# Altium schematic symbol library kmilo17pet-TI_LDO_0_350.SchLib: 1649 symbols (part 62 of 66)
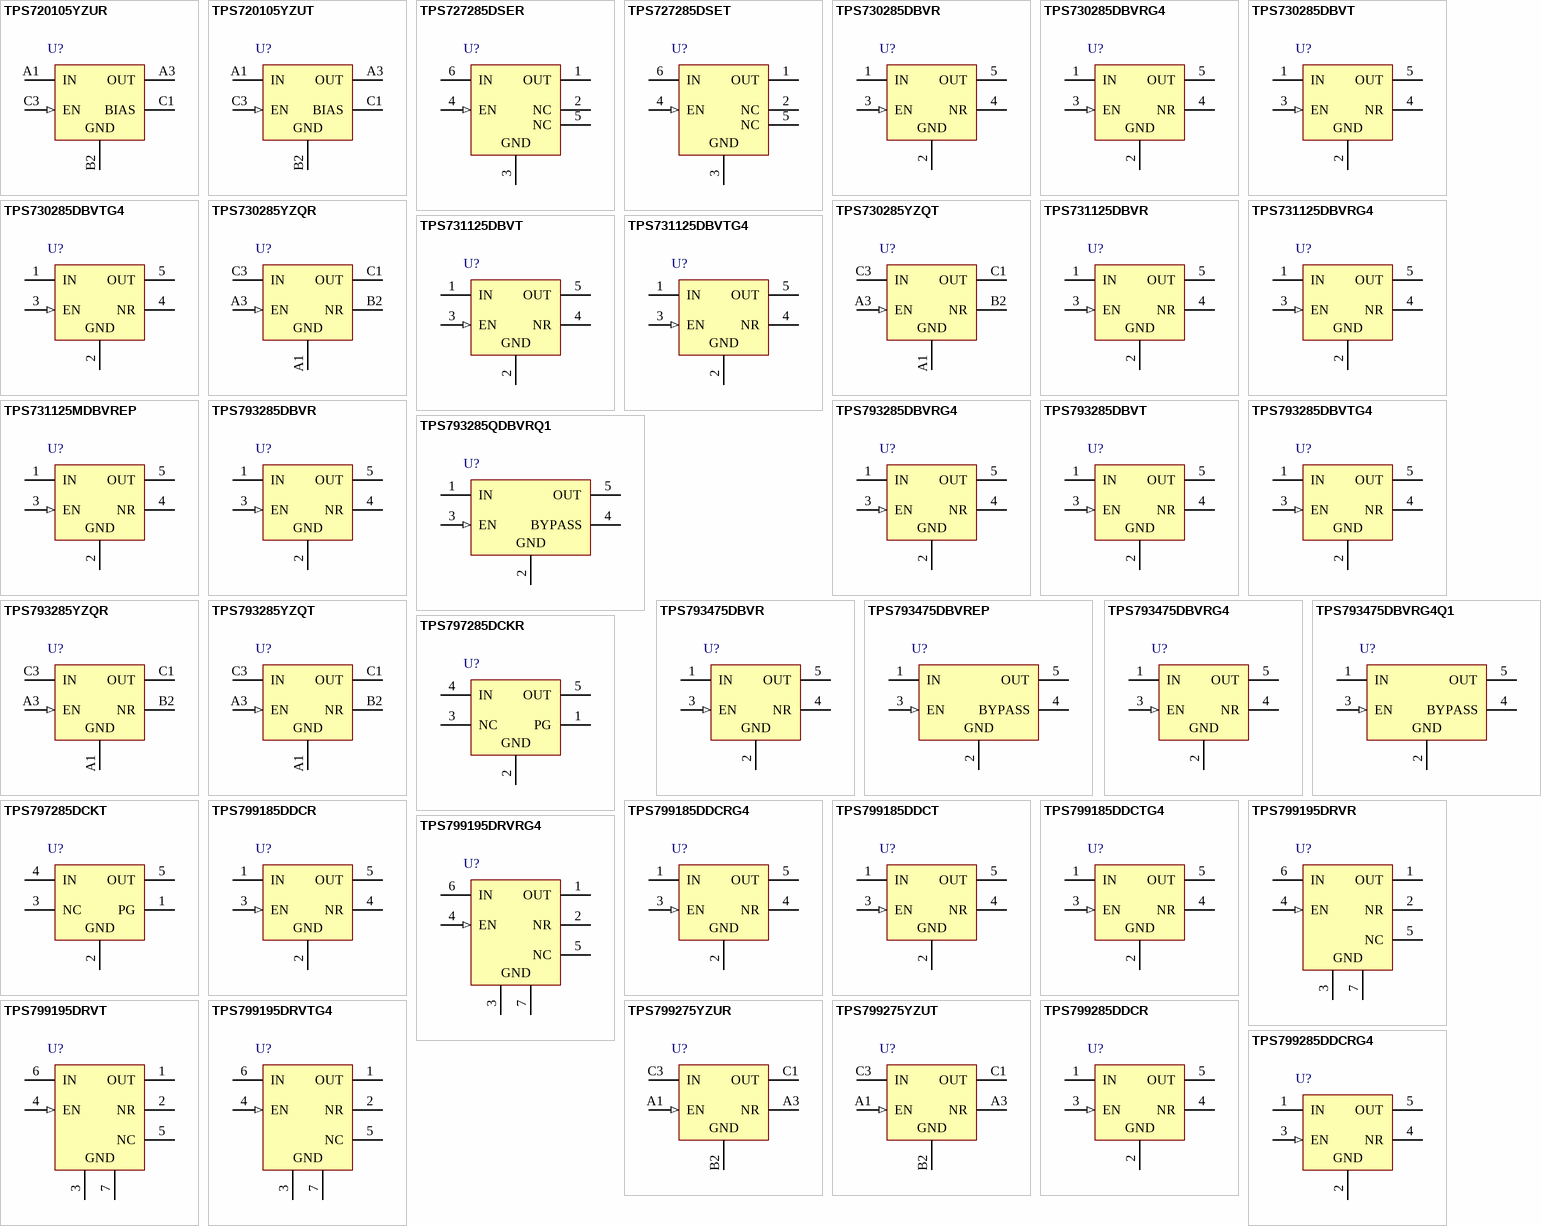
[diagram p103: symbols TPS720105YZUR to TPS799285DDCRG4]

## TPS799275YZUT
designator U?
Single Output High PSRR LDO, 200 mA, Fixed 2.75 V Output, 2.7 to 6.5 V Input, with Low IQ, 5-pin DSBGA (YZU), -40 to 85 degC, Green (RoHS & no Sb/Br); Manufacturer: Texas Instruments; PartNumber: TPS799275YZUT; Accuracy(%): 2; Fixed Output Options(V): 2.8; Iout(Max)(A): 0.2; Iq(Typ)(mA): 0.04; Rating: Catalog; SubFamily: Single Channel LDO; Vdo(Typ)(mV): 100; Vin(Max)(V): 6.5; Vin(Min)(V): 2.7; DatasheetVersion: SBVS056J; PackageVersion: 4205678/D; PackageReference: YZU5; PackageDescription: 5-Pin Silicon Grid Array, Body 1.337 x 0.971 mm, Pitch 0.25 mm; Supplier 1: Digi-Key; Supplier Part Number 1: 296-32582-2-ND; Supplier 2: Digi-Key; Supplier Part Number 2: 296-32582-1-ND; Supplier 3: Digi-Key; Supplier Part Number 3: 296-32582-6-ND; Supplier 4: Newark; Supplier Part Number 4: 27M1115; Supplier 5: Mouser; Supplier Part Number 5: 595-TPS799275YZUT; Eco-Plan: Green (RoHS & no Sb/Br); Vout Adj(Max)(V): 2.7; Vout Adj(Min)(V): 2.7; Mounting Technology: Surface Mount; ComponentLink1Description: Manufacturer URL; ComponentLink1URL: http://www.ti.com/; ComponentLink2Description: Datasheet; ComponentLink2URL: http://www.ti.com/general/docs/lit/getliterature.tsp?genericPartNumber=TPS799275&fileType=pdf; ComponentLink3Description: Package Specification; ComponentLink3URL: http://www.ti.com/litv/pdf/mpds018i
footprint TI-YZU5-1337x971DE (BGA, 5-Balls, Body 1.337x0.971mm, Pitch 0.25mm)
pins: A1 EN (in) "Driving the enable pin (EN) high turns on the regulator.Driving this pin low puts the regulator into shutdown mode.EN can be connected to IN if not used.", A3 NR "Fixed voltage versions only; connecting an external capacitor to this pin bypasses noise generated by the internal bandgap. This capacitor allows output noise to be reduced to very low levels.", B2 GND (power) "Ground. The pad must be tied to GND", C1 OUT (power) "Outout of the regulator.A small capacitor (total typical capacitance >= 2.0uF ceramic) is needed from this pin to ground to assure stability.", C3 IN (power) "Input supply."

## TPS799285DDCR
designator U?
Single Output High PSRR LDO, 200 mA, Fixed 2.85 V Output, 2.7 to 6.5 V Input, with Low IQ, 5-pin SOT (DDC), -40 to 85 degC, Green (RoHS & no Sb/Br); Manufacturer: Texas Instruments; PartNumber: TPS799285DDCR; Accuracy(%): 2; Fixed Output Options(V): 2.85; Iout(Max)(A): 0.2; Iq(Typ)(mA): 0.04; Rating: Catalog; SubFamily: Single Channel LDO; Vdo(Typ)(mV): 100; Vin(Max)(V): 6.5; Vin(Min)(V): 2.7; DatasheetVersion: SBVS056J; PackageVersion: 4204403-2/E; PackageReference: DDC5; PackageDescription: 5-Pin Plastic Small Outline, Body 2.9 x 1.6 mm, 0.95 mm Pitch; Supplier 1: Digi-Key; Supplier Part Number 1: 296-17780-2-ND; Supplier 2: Digi-Key; Supplier Part Number 2: 296-17780-1-ND; Supplier 3: Digi-Key; Supplier Part Number 3: 296-17780-6-ND; Supplier 4: Mouser; Supplier Part Number 4: 595-TPS799285DDCR; Eco-Plan: Green (RoHS & no Sb/Br); Vout Adj(Max)(V): 2.85; Vout Adj(Min)(V): 2.85; Mounting Technology: Surface Mount; Code_JEDEC: MO-193; ComponentLink1Description: Manufacturer URL; ComponentLink1URL: http://www.ti.com/; ComponentLink2Description: Datasheet; ComponentLink2URL: http://www.ti.com/general/docs/lit/getliterature.tsp?genericPartNumber=TPS799285&fileType=pdf; ComponentLink3Description: Package Specification; ComponentLink3URL: http://www.ti.com/litv/pdf/mpds123d
footprint TI-DDC5_N (SOT23, 5-Leads, Body 2.9x1.6mm, Pitch 0.95mm, IPC Medium Density)
footprint TI-DDC5_L (SOT23, 5-Leads, Body 2.9x1.6mm, Pitch 0.95mm, IPC High Density)
footprint TI-DDC5_M (SOT23, 5-Leads, Body 2.9x1.6mm, Pitch 0.95mm, IPC Low Density)
pins: 1 IN (power) "Input supply.", 2 GND (power) "Ground.", 3 EN (in) "Driving the enable pin (EN) high turns on the regulator .Driving this pin low puts the regulator into shutdown mode.EN can be connected to IN if not used.", 4 NR "Fixed voltage versions only; connecting an external capacitor to this pin bypasses noise generated by the internal bandgap. This capacitor allows output noise to be reduced to very low levels.", 5 OUT (power) "Output for the regulator. A small capacitor (total typical capacitance >= 2.0uF ceramic) is needed from this pin to ground to assure stability."

## TPS799285DDCRG4
designator U?
Single Output High PSRR LDO, 200 mA, Fixed 2.85 V Output, 2.7 to 6.5 V Input, with Low IQ, 5-pin SOT (DDC), -40 to 85 degC, Green (RoHS & no Sb/Br); Manufacturer: Texas Instruments; PartNumber: TPS799285DDCRG4; Accuracy(%): 2; Fixed Output Options(V): 2.85; Iout(Max)(A): 0.2; Iq(Typ)(mA): 0.04; Rating: Catalog; SubFamily: Single Channel LDO; Vdo(Typ)(mV): 100; Vin(Max)(V): 6.5; Vin(Min)(V): 2.7; DatasheetVersion: SBVS056J; PackageVersion: 4204403-2/E; PackageReference: DDC5; PackageDescription: 5-Pin Plastic Small Outline, Body 2.9 x 1.6 mm, 0.95 mm Pitch; Supplier 1: Digi-Key; Supplier Part Number 1: TPS799285DDCRG4-ND; Supplier 2: Mouser; Supplier Part Number 2: 595-TPS799285DDCRG4; Eco-Plan: Green (RoHS & no Sb/Br); Vout Adj(Max)(V): 2.85; Vout Adj(Min)(V): 2.85; Mounting Technology: Surface Mount; Code_JEDEC: MO-193; ComponentLink1Description: Manufacturer URL; ComponentLink1URL: http://www.ti.com/; ComponentLink2Description: Datasheet; ComponentLink2URL: http://www.ti.com/general/docs/lit/getliterature.tsp?genericPartNumber=TPS799285&fileType=pdf; ComponentLink3Description: Package Specification; ComponentLink3URL: http://www.ti.com/litv/pdf/mpds123d
footprint TI-DDC5_N (SOT23, 5-Leads, Body 2.9x1.6mm, Pitch 0.95mm, IPC Medium Density)
footprint TI-DDC5_L (SOT23, 5-Leads, Body 2.9x1.6mm, Pitch 0.95mm, IPC High Density)
footprint TI-DDC5_M (SOT23, 5-Leads, Body 2.9x1.6mm, Pitch 0.95mm, IPC Low Density)
pins: 1 IN (power) "Input supply.", 2 GND (power) "Ground.", 3 EN (in) "Driving the enable pin (EN) high turns on the regulator .Driving this pin low puts the regulator into shutdown mode.EN can be connected to IN if not used.", 4 NR "Fixed voltage versions only; connecting an external capacitor to this pin bypasses noise generated by the internal bandgap. This capacitor allows output noise to be reduced to very low levels.", 5 OUT (power) "Output for the regulator. A small capacitor (total typical capacitance >= 2.0uF ceramic) is needed from this pin to ground to assure stability."

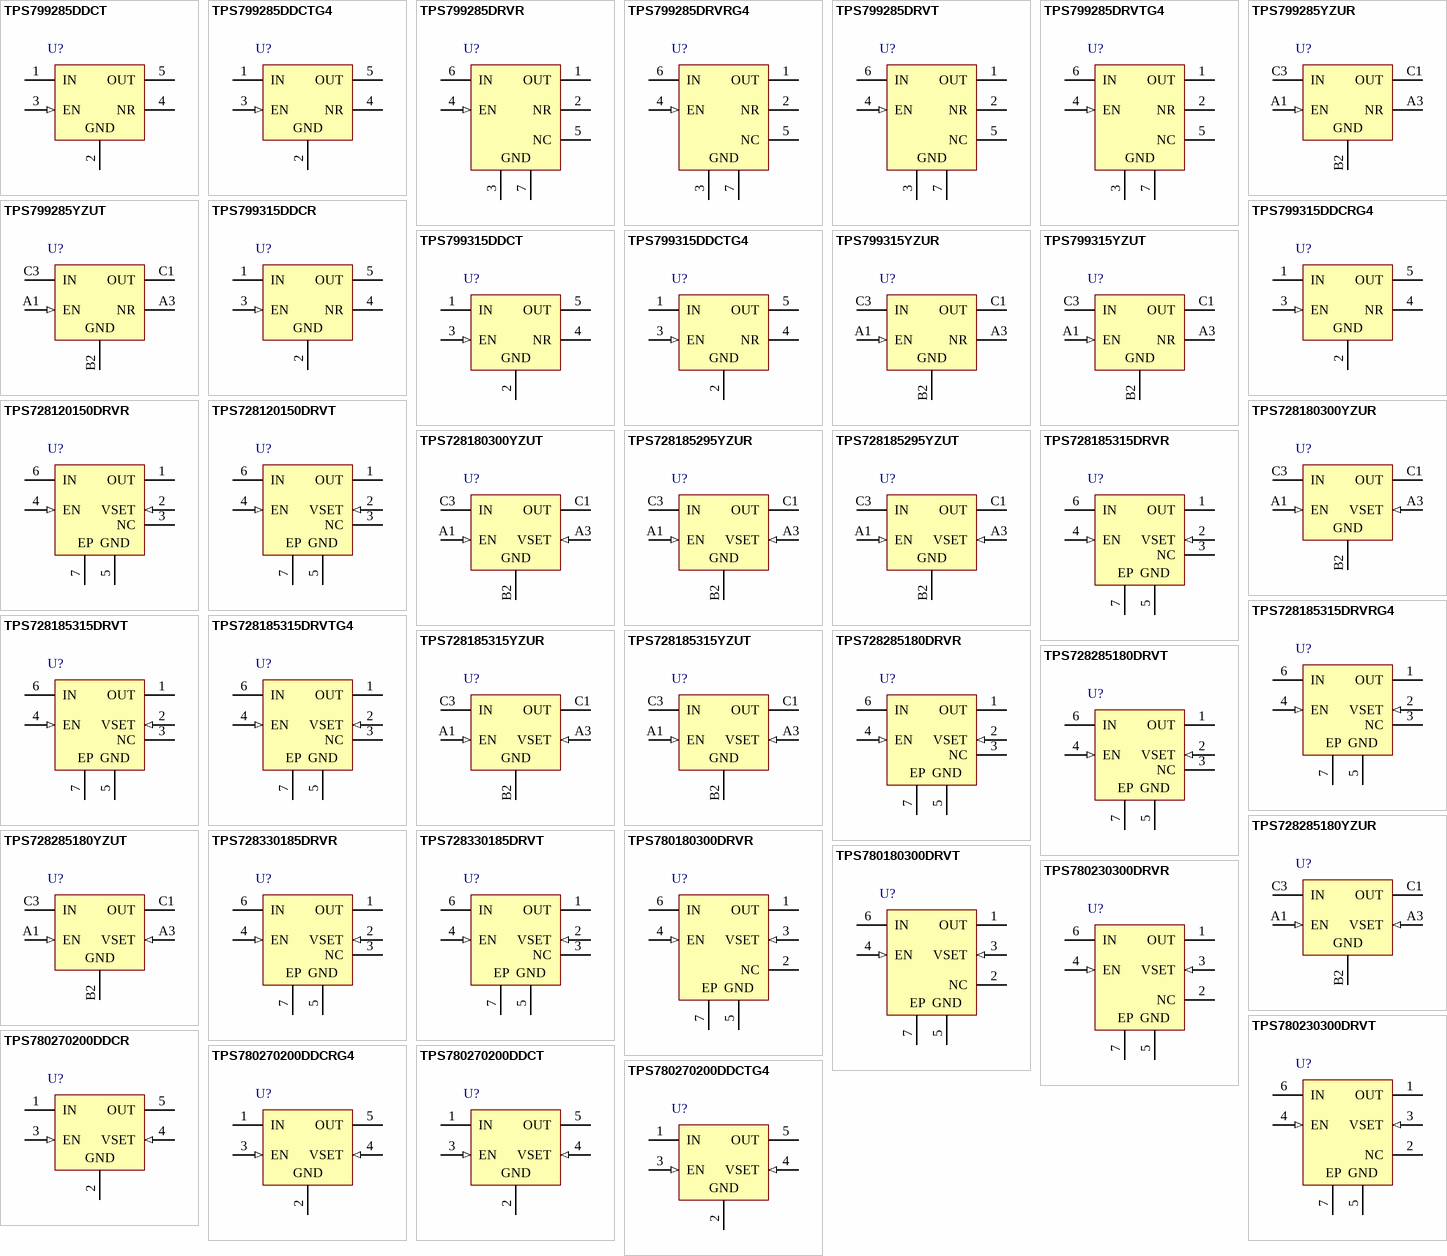
[diagram p40: symbols TPS799285DDCT to TPS780270200DDCTG4]

## TPS799285DDCT
designator U?
Single Output High PSRR LDO, 200 mA, Fixed 2.85 V Output, 2.7 to 6.5 V Input, with Low IQ, 5-pin SOT (DDC), -40 to 85 degC, Green (RoHS & no Sb/Br); Manufacturer: Texas Instruments; PartNumber: TPS799285DDCT; Accuracy(%): 2; Fixed Output Options(V): 2.85; Iout(Max)(A): 0.2; Iq(Typ)(mA): 0.04; Rating: Catalog; SubFamily: Single Channel LDO; Vdo(Typ)(mV): 100; Vin(Max)(V): 6.5; Vin(Min)(V): 2.7; DatasheetVersion: SBVS056J; PackageVersion: 4204403-2/E; PackageReference: DDC5; PackageDescription: 5-Pin Plastic Small Outline, Body 2.9 x 1.6 mm, 0.95 mm Pitch; Supplier 1: Digi-Key; Supplier Part Number 1: 296-32583-2-ND; Supplier 2: Digi-Key; Supplier Part Number 2: 296-32583-1-ND; Supplier 3: Digi-Key; Supplier Part Number 3: 296-32583-6-ND; Supplier 4: Mouser; Supplier Part Number 4: 595-TPS799285DDCT; Eco-Plan: Green (RoHS & no Sb/Br); Vout Adj(Max)(V): 2.85; Vout Adj(Min)(V): 2.85; Mounting Technology: Surface Mount; Code_JEDEC: MO-193; ComponentLink1Description: Manufacturer URL; ComponentLink1URL: http://www.ti.com/; ComponentLink2Description: Datasheet; ComponentLink2URL: http://www.ti.com/general/docs/lit/getliterature.tsp?genericPartNumber=TPS799285&fileType=pdf; ComponentLink3Description: Package Specification; ComponentLink3URL: http://www.ti.com/litv/pdf/mpds123d
footprint TI-DDC5_N (SOT23, 5-Leads, Body 2.9x1.6mm, Pitch 0.95mm, IPC Medium Density)
footprint TI-DDC5_L (SOT23, 5-Leads, Body 2.9x1.6mm, Pitch 0.95mm, IPC High Density)
footprint TI-DDC5_M (SOT23, 5-Leads, Body 2.9x1.6mm, Pitch 0.95mm, IPC Low Density)
pins: 1 IN (power) "Input supply.", 2 GND (power) "Ground.", 3 EN (in) "Driving the enable pin (EN) high turns on the regulator .Driving this pin low puts the regulator into shutdown mode.EN can be connected to IN if not used.", 4 NR "Fixed voltage versions only; connecting an external capacitor to this pin bypasses noise generated by the internal bandgap. This capacitor allows output noise to be reduced to very low levels.", 5 OUT (power) "Output for the regulator. A small capacitor (total typical capacitance >= 2.0uF ceramic) is needed from this pin to ground to assure stability."

## TPS799285DDCTG4
designator U?
Single Output High PSRR LDO, 200 mA, Fixed 2.85 V Output, 2.7 to 6.5 V Input, with Low IQ, 5-pin SOT (DDC), -40 to 85 degC, Green (RoHS & no Sb/Br); Manufacturer: Texas Instruments; PartNumber: TPS799285DDCTG4; Accuracy(%): 2; Fixed Output Options(V): 2.85; Iout(Max)(A): 0.2; Iq(Typ)(mA): 0.04; Rating: Catalog; SubFamily: Single Channel LDO; Vdo(Typ)(mV): 100; Vin(Max)(V): 6.5; Vin(Min)(V): 2.7; DatasheetVersion: SBVS056J; PackageVersion: 4204403-2/E; PackageReference: DDC5; PackageDescription: 5-Pin Plastic Small Outline, Body 2.9 x 1.6 mm, 0.95 mm Pitch; Supplier 1: Digi-Key; Supplier Part Number 1: TPS799285DDCTG4-ND; Supplier 2: Mouser; Supplier Part Number 2: 595-TPS799285DDCTG4; Eco-Plan: Green (RoHS & no Sb/Br); Vout Adj(Max)(V): 2.85; Vout Adj(Min)(V): 2.85; Mounting Technology: Surface Mount; Code_JEDEC: MO-193; ComponentLink1Description: Manufacturer URL; ComponentLink1URL: http://www.ti.com/; ComponentLink2Description: Datasheet; ComponentLink2URL: http://www.ti.com/general/docs/lit/getliterature.tsp?genericPartNumber=TPS799285&fileType=pdf; ComponentLink3Description: Package Specification; ComponentLink3URL: http://www.ti.com/litv/pdf/mpds123d
footprint TI-DDC5_N (SOT23, 5-Leads, Body 2.9x1.6mm, Pitch 0.95mm, IPC Medium Density)
footprint TI-DDC5_L (SOT23, 5-Leads, Body 2.9x1.6mm, Pitch 0.95mm, IPC High Density)
footprint TI-DDC5_M (SOT23, 5-Leads, Body 2.9x1.6mm, Pitch 0.95mm, IPC Low Density)
pins: 1 IN (power) "Input supply.", 2 GND (power) "Ground.", 3 EN (in) "Driving the enable pin (EN) high turns on the regulator .Driving this pin low puts the regulator into shutdown mode.EN can be connected to IN if not used.", 4 NR "Fixed voltage versions only; connecting an external capacitor to this pin bypasses noise generated by the internal bandgap. This capacitor allows output noise to be reduced to very low levels.", 5 OUT (power) "Output for the regulator. A small capacitor (total typical capacitance >= 2.0uF ceramic) is needed from this pin to ground to assure stability."

## TPS799285DRVR
designator U?
Single Output High PSRR LDO, 200 mA, Fixed 2.85 V Output, 2.7 to 6.5 V Input, with Low IQ, 6-pin SON (DRV), -40 to 85 degC, Green (RoHS & no Sb/Br); Manufacturer: Texas Instruments; PartNumber: TPS799285DRVR; Accuracy(%): 2; Fixed Output Options(V): 2.85; Iout(Max)(A): 0.2; Iq(Typ)(mA): 0.04; Rating: Catalog; SubFamily: Single Channel LDO; Vdo(Typ)(mV): 100; Vin(Max)(V): 6.5; Vin(Min)(V): 2.7; DatasheetVersion: SBVS056J; PackageVersion: 4206925/E; PackageReference: DRV6-1600X1000TP; PackageDescription: 6-Pin Plastic Small Outline No-Lead, Body 2 x 2 mm, Pitch 0.65 mm; Supplier 1: Digi-Key; Supplier Part Number 1: 296-19747-2-ND; Supplier 2: Digi-Key; Supplier Part Number 2: 296-19747-1-ND; Supplier 3: Digi-Key; Supplier Part Number 3: 296-19747-6-ND; Supplier 4: Mouser; Supplier Part Number 4: 595-TPS799285DRVR; Eco-Plan: Green (RoHS & no Sb/Br); Vout Adj(Max)(V): 2.85; Vout Adj(Min)(V): 2.85; Mounting Technology: Surface Mount; ComponentLink1Description: Manufacturer URL; ComponentLink1URL: http://www.ti.com/; ComponentLink2Description: Datasheet; ComponentLink2URL: http://www.ti.com/general/docs/lit/getliterature.tsp?genericPartNumber=TPS799285&fileType=pdf; ComponentLink3Description: Package Specification; ComponentLink3URL: http://www.ti.com/litv/pdf/mpds216d
footprint TI-DRV6-1600X1000TP_V (SON, 6-Leads, Body 2x2mm, Pitch 0.65mm, Thermal Pad 1X1.6mm)
pins: 1 OUT (power) "Output of the regulator. A small capacitor (total typical capacitance >= 2.0uF ceramic) is needed from this pin to ground to assure stability.", 2 NR "Fixed voltage versions only; connecting an external capacitor to this pin bypasses noise generated by the internal bandgap. This allows output noise to be reduced to very low levels.", 3 GND (power) "Ground", 4 EN (in) "Driving the enable pin (EN) high turns on the regulator. Driving this pin low puts the regulator into shutdown mode. EN can be connected to IN if not used.", 5 NC "Not internally connected. This pin must either be left open, or tied to GND.", 6 IN (power) "Input supply.", 7 GND (power) "The pad must be tied to GND."

## TPS799285DRVRG4
designator U?
Single Output High PSRR LDO, 200 mA, Fixed 2.85 V Output, 2.7 to 6.5 V Input, with Low IQ, 6-pin SON (DRV), -40 to 85 degC, Green (RoHS & no Sb/Br); Manufacturer: Texas Instruments; PartNumber: TPS799285DRVRG4; Accuracy(%): 2; Fixed Output Options(V): 2.85; Iout(Max)(A): 0.2; Iq(Typ)(mA): 0.04; Rating: Catalog; SubFamily: Single Channel LDO; Vdo(Typ)(mV): 100; Vin(Max)(V): 6.5; Vin(Min)(V): 2.7; DatasheetVersion: SBVS056J; PackageVersion: 4206925/E; PackageReference: DRV6-1600X1000TP; PackageDescription: 6-Pin Plastic Small Outline No-Lead, Body 2 x 2 mm, Pitch 0.65 mm; Supplier 1: Digi-Key; Supplier Part Number 1: TPS799285DRVRG4-ND; Supplier 2: Mouser; Supplier Part Number 2: 595-TPS799285DRVRG4; Eco-Plan: Green (RoHS & no Sb/Br); Vout Adj(Max)(V): 2.85; Vout Adj(Min)(V): 2.85; Mounting Technology: Surface Mount; ComponentLink1Description: Manufacturer URL; ComponentLink1URL: http://www.ti.com/; ComponentLink2Description: Datasheet; ComponentLink2URL: http://www.ti.com/general/docs/lit/getliterature.tsp?genericPartNumber=TPS799285&fileType=pdf; ComponentLink3Description: Package Specification; ComponentLink3URL: http://www.ti.com/litv/pdf/mpds216d
footprint TI-DRV6-1600X1000TP_V (SON, 6-Leads, Body 2x2mm, Pitch 0.65mm, Thermal Pad 1X1.6mm)
pins: 1 OUT (power) "Output of the regulator. A small capacitor (total typical capacitance >= 2.0uF ceramic) is needed from this pin to ground to assure stability.", 2 NR "Fixed voltage versions only; connecting an external capacitor to this pin bypasses noise generated by the internal bandgap. This allows output noise to be reduced to very low levels.", 3 GND (power) "Ground", 4 EN (in) "Driving the enable pin (EN) high turns on the regulator. Driving this pin low puts the regulator into shutdown mode. EN can be connected to IN if not used.", 5 NC "Not internally connected. This pin must either be left open, or tied to GND.", 6 IN (power) "Input supply.", 7 GND (power) "The pad must be tied to GND."

## TPS799285DRVT
designator U?
Single Output High PSRR LDO, 200 mA, Fixed 2.85 V Output, 2.7 to 6.5 V Input, with Low IQ, 6-pin SON (DRV), -40 to 85 degC, Green (RoHS & no Sb/Br); Manufacturer: Texas Instruments; PartNumber: TPS799285DRVT; Accuracy(%): 2; Fixed Output Options(V): 2.85; Iout(Max)(A): 0.2; Iq(Typ)(mA): 0.04; Rating: Catalog; SubFamily: Single Channel LDO; Vdo(Typ)(mV): 100; Vin(Max)(V): 6.5; Vin(Min)(V): 2.7; DatasheetVersion: SBVS056J; PackageVersion: 4206925/E; PackageReference: DRV6-1600X1000TP; PackageDescription: 6-Pin Plastic Small Outline No-Lead, Body 2 x 2 mm, Pitch 0.65 mm; Supplier 1: Digi-Key; Supplier Part Number 1: TPS799285DRVT-ND; Supplier 2: Mouser; Supplier Part Number 2: 595-TPS799285DRVT; Eco-Plan: Green (RoHS & no Sb/Br); Vout Adj(Max)(V): 2.85; Vout Adj(Min)(V): 2.85; Mounting Technology: Surface Mount; ComponentLink1Description: Manufacturer URL; ComponentLink1URL: http://www.ti.com/; ComponentLink2Description: Datasheet; ComponentLink2URL: http://www.ti.com/general/docs/lit/getliterature.tsp?genericPartNumber=TPS799285&fileType=pdf; ComponentLink3Description: Package Specification; ComponentLink3URL: http://www.ti.com/litv/pdf/mpds216d
footprint TI-DRV6-1600X1000TP_V (SON, 6-Leads, Body 2x2mm, Pitch 0.65mm, Thermal Pad 1X1.6mm)
pins: 1 OUT (power) "Output of the regulator. A small capacitor (total typical capacitance >= 2.0uF ceramic) is needed from this pin to ground to assure stability.", 2 NR "Fixed voltage versions only; connecting an external capacitor to this pin bypasses noise generated by the internal bandgap. This allows output noise to be reduced to very low levels.", 3 GND (power) "Ground", 4 EN (in) "Driving the enable pin (EN) high turns on the regulator. Driving this pin low puts the regulator into shutdown mode. EN can be connected to IN if not used.", 5 NC "Not internally connected. This pin must either be left open, or tied to GND.", 6 IN (power) "Input supply.", 7 GND (power) "The pad must be tied to GND."

## TPS799285DRVTG4
designator U?
Single Output High PSRR LDO, 200 mA, Fixed 2.85 V Output, 2.7 to 6.5 V Input, with Low IQ, 6-pin SON (DRV), -40 to 85 degC, Green (RoHS & no Sb/Br); Manufacturer: Texas Instruments; PartNumber: TPS799285DRVTG4; Accuracy(%): 2; Fixed Output Options(V): 2.85; Iout(Max)(A): 0.2; Iq(Typ)(mA): 0.04; Rating: Catalog; SubFamily: Single Channel LDO; Vdo(Typ)(mV): 100; Vin(Max)(V): 6.5; Vin(Min)(V): 2.7; DatasheetVersion: SBVS056J; PackageVersion: 4206925/E; PackageReference: DRV6-1600X1000TP; PackageDescription: 6-Pin Plastic Small Outline No-Lead, Body 2 x 2 mm, Pitch 0.65 mm; Supplier 1: Digi-Key; Supplier Part Number 1: TPS799285DRVTG4-ND; Supplier 2: Mouser; Supplier Part Number 2: 595-TPS799285DRVTG4; Eco-Plan: Green (RoHS & no Sb/Br); Vout Adj(Max)(V): 2.85; Vout Adj(Min)(V): 2.85; Mounting Technology: Surface Mount; ComponentLink1Description: Manufacturer URL; ComponentLink1URL: http://www.ti.com/; ComponentLink2Description: Datasheet; ComponentLink2URL: http://www.ti.com/general/docs/lit/getliterature.tsp?genericPartNumber=TPS799285&fileType=pdf; ComponentLink3Description: Package Specification; ComponentLink3URL: http://www.ti.com/litv/pdf/mpds216d
footprint TI-DRV6-1600X1000TP_V (SON, 6-Leads, Body 2x2mm, Pitch 0.65mm, Thermal Pad 1X1.6mm)
pins: 1 OUT (power) "Output of the regulator. A small capacitor (total typical capacitance >= 2.0uF ceramic) is needed from this pin to ground to assure stability.", 2 NR "Fixed voltage versions only; connecting an external capacitor to this pin bypasses noise generated by the internal bandgap. This allows output noise to be reduced to very low levels.", 3 GND (power) "Ground", 4 EN (in) "Driving the enable pin (EN) high turns on the regulator. Driving this pin low puts the regulator into shutdown mode. EN can be connected to IN if not used.", 5 NC "Not internally connected. This pin must either be left open, or tied to GND.", 6 IN (power) "Input supply.", 7 GND (power) "The pad must be tied to GND."

## TPS799285YZUR
designator U?
Single Output High PSRR LDO, 200 mA, Fixed 2.85 V Output, 2.7 to 6.5 V Input, with Low IQ, 5-pin DSBGA (YZU), -40 to 85 degC, Green (RoHS & no Sb/Br); Manufacturer: Texas Instruments; PartNumber: TPS799285YZUR; Accuracy(%): 2; Fixed Output Options(V): 2.85; Iout(Max)(A): 0.2; Iq(Typ)(mA): 0.04; Rating: Catalog; SubFamily: Single Channel LDO; Vdo(Typ)(mV): 100; Vin(Max)(V): 6.5; Vin(Min)(V): 2.7; DatasheetVersion: SBVS056J; PackageVersion: 4205678/D; PackageReference: YZU5; PackageDescription: 5-Pin Silicon Grid Array, Body 1.337 x 0.971 mm, Pitch 0.25 mm; Supplier 1: Digi-Key; Supplier Part Number 1: 296-19483-2-ND; Supplier 2: Digi-Key; Supplier Part Number 2: 296-19483-1-ND; Supplier 3: Mouser; Supplier Part Number 3: 595-TPS799285YZUR; Eco-Plan: Green (RoHS & no Sb/Br); Vout Adj(Max)(V): 2.85; Vout Adj(Min)(V): 2.85; Mounting Technology: Surface Mount; ComponentLink1Description: Manufacturer URL; ComponentLink1URL: http://www.ti.com/; ComponentLink2Description: Datasheet; ComponentLink2URL: http://www.ti.com/general/docs/lit/getliterature.tsp?genericPartNumber=TPS799285&fileType=pdf; ComponentLink3Description: Package Specification; ComponentLink3URL: http://www.ti.com/litv/pdf/mpds018i
footprint TI-YZU5-1337x971DE (BGA, 5-Balls, Body 1.337x0.971mm, Pitch 0.25mm)
pins: A1 EN (in) "Driving the enable pin (EN) high turns on the regulator.Driving this pin low puts the regulator into shutdown mode.EN can be connected to IN if not used.", A3 NR "Fixed voltage versions only; connecting an external capacitor to this pin bypasses noise generated by the internal bandgap. This capacitor allows output noise to be reduced to very low levels.", B2 GND (power) "Ground pin (connect DRV thermal pad to ground)", C1 OUT (power) "Output of the regulator.A small capacitor (total typical capacitance >= 2.0uF ceramic) is needed from this pin to ground to assure stability.", C3 IN (power) "Input supply."

## TPS799285YZUT
designator U?
Single Output High PSRR LDO, 200 mA, Fixed 2.85 V Output, 2.7 to 6.5 V Input, with Low IQ, 5-pin DSBGA (YZU), -40 to 85 degC, Green (RoHS & no Sb/Br); Manufacturer: Texas Instruments; PartNumber: TPS799285YZUT; Accuracy(%): 2; Fixed Output Options(V): 2.85; Iout(Max)(A): 0.2; Iq(Typ)(mA): 0.04; Rating: Catalog; SubFamily: Single Channel LDO; Vdo(Typ)(mV): 100; Vin(Max)(V): 6.5; Vin(Min)(V): 2.7; DatasheetVersion: SBVS056J; PackageVersion: 4205678/D; PackageReference: YZU5; PackageDescription: 5-Pin Silicon Grid Array, Body 1.337 x 0.971 mm, Pitch 0.25 mm; Supplier 1: Digi-Key; Supplier Part Number 1: 296-18737-2-ND; Supplier 2: Digi-Key; Supplier Part Number 2: 296-18737-1-ND; Supplier 3: Mouser; Supplier Part Number 3: 595-TPS799285YZUT; Eco-Plan: Green (RoHS & no Sb/Br); Vout Adj(Max)(V): 2.85; Vout Adj(Min)(V): 2.85; Mounting Technology: Surface Mount; ComponentLink1Description: Manufacturer URL; ComponentLink1URL: http://www.ti.com/; ComponentLink2Description: Datasheet; ComponentLink2URL: http://www.ti.com/general/docs/lit/getliterature.tsp?genericPartNumber=TPS799285&fileType=pdf; ComponentLink3Description: Package Specification; ComponentLink3URL: http://www.ti.com/litv/pdf/mpds018i
footprint TI-YZU5-1337x971DE (BGA, 5-Balls, Body 1.337x0.971mm, Pitch 0.25mm)
pins: A1 EN (in) "Driving the enable pin (EN) high turns on the regulator.Driving this pin low puts the regulator into shutdown mode.EN can be connected to IN if not used.", A3 NR "Fixed voltage versions only; connecting an external capacitor to this pin bypasses noise generated by the internal bandgap. This capacitor allows output noise to be reduced to very low levels.", B2 GND (power) "Ground pin (connect DRV thermal pad to ground)", C1 OUT (power) "Output of the regulator.A small capacitor (total typical capacitance >= 2.0uF ceramic) is needed from this pin to ground to assure stability.", C3 IN (power) "Input supply."

## TPS799315DDCR
designator U?
Single Output High PSRR LDO, 200 mA, Fixed 3.15 V Output, 2.7 to 6.5 V Input, with Ultra-Low Noise, 5-pin SOT (DDC), -40 to 125 degC, Green (RoHS & no Sb/Br); Manufacturer: Texas Instruments; PartNumber: TPS799315DDCR; Accuracy(%): 2; Fixed Output Options(V): 3.2; Iout(Max)(A): 0.2; Iq(Typ)(mA): 0.04; Rating: Catalog; SubFamily: Single Channel LDO; Vdo(Typ)(mV): 100; Vin(Max)(V): 6.5; Vin(Min)(V): 2.7; Vout Adj(Max)(V): 3.1; DatasheetVersion: SBVS056J; PackageVersion: 4204403-2/E; PackageReference: DDC5; PackageDescription: 5-Pin Plastic Small Outline, Body 2.9 x 1.6 mm, 0.95 mm Pitch; Supplier 1: Digi-Key; Supplier Part Number 1: 296-23410-2-ND; Supplier 2: Digi-Key; Supplier Part Number 2: 296-23410-1-ND; Supplier 3: Digi-Key; Supplier Part Number 3: 296-23410-6-ND; Supplier 4: Newark; Supplier Part Number 4: 99M6414; Supplier 5: Mouser; Supplier Part Number 5: 595-TPS799315DDCR; Eco-Plan: Green (RoHS & no Sb/Br); Vout Adj(Min)(V): 3.1; Mounting Technology: Surface Mount; Code_JEDEC: MO-193; ComponentLink1Description: Manufacturer URL; ComponentLink1URL: http://www.ti.com/; ComponentLink2Description: Datasheet; ComponentLink2URL: http://www.ti.com/general/docs/lit/getliterature.tsp?genericPartNumber=TPS799315&fileType=pdf; ComponentLink3Description: Package Specification; ComponentLink3URL: http://www.ti.com/litv/pdf/mpds123d
footprint TI-DDC5_N (SOT23, 5-Leads, Body 2.9x1.6mm, Pitch 0.95mm, IPC Medium Density)
footprint TI-DDC5_L (SOT23, 5-Leads, Body 2.9x1.6mm, Pitch 0.95mm, IPC High Density)
footprint TI-DDC5_M (SOT23, 5-Leads, Body 2.9x1.6mm, Pitch 0.95mm, IPC Low Density)
pins: 1 IN (power) "Input supply.", 2 GND (power) "Ground.", 3 EN (in) "Driving the enable pin (EN) high turns on the regulator .Driving this pin low puts the regulator into shutdown mode.EN can be connected to IN if not used.", 4 NR "Fixed voltage versions only; connecting an external capacitor to this pin bypasses noise generated by the internal bandgap. This capacitor allows output noise to be reduced to very low levels.", 5 OUT (power) "Output for the regulator. A small capacitor (total typical capacitance >= 2.0uF ceramic) is needed from this pin to ground to assure stability."

## TPS799315DDCRG4
designator U?
Single Output High PSRR LDO, 200 mA, Fixed 3.15 V Output, 2.7 to 6.5 V Input, with Ultra-Low Noise, 5-pin SOT (DDC), -40 to 125 degC, Green (RoHS & no Sb/Br); Manufacturer: Texas Instruments; PartNumber: TPS799315DDCRG4; Accuracy(%): 2; Fixed Output Options(V): 3.2; Iout(Max)(A): 0.2; Iq(Typ)(mA): 0.04; Rating: Catalog; SubFamily: Single Channel LDO; Vdo(Typ)(mV): 100; Vin(Max)(V): 6.5; Vin(Min)(V): 2.7; Vout Adj(Max)(V): 3.1; DatasheetVersion: SBVS056J; PackageVersion: 4204403-2/E; PackageReference: DDC5; PackageDescription: 5-Pin Plastic Small Outline, Body 2.9 x 1.6 mm, 0.95 mm Pitch; Supplier 1: Digi-Key; Supplier Part Number 1: TPS799315DDCRG4-ND; Supplier 2: Mouser; Supplier Part Number 2: 595-TPS799315DDCRG4; Eco-Plan: Green (RoHS & no Sb/Br); Vout Adj(Min)(V): 3.1; Mounting Technology: Surface Mount; Code_JEDEC: MO-193; ComponentLink1Description: Manufacturer URL; ComponentLink1URL: http://www.ti.com/; ComponentLink2Description: Datasheet; ComponentLink2URL: http://www.ti.com/general/docs/lit/getliterature.tsp?genericPartNumber=TPS799315&fileType=pdf; ComponentLink3Description: Package Specification; ComponentLink3URL: http://www.ti.com/litv/pdf/mpds123d
footprint TI-DDC5_N (SOT23, 5-Leads, Body 2.9x1.6mm, Pitch 0.95mm, IPC Medium Density)
footprint TI-DDC5_L (SOT23, 5-Leads, Body 2.9x1.6mm, Pitch 0.95mm, IPC High Density)
footprint TI-DDC5_M (SOT23, 5-Leads, Body 2.9x1.6mm, Pitch 0.95mm, IPC Low Density)
pins: 1 IN (power) "Input supply.", 2 GND (power) "Ground.", 3 EN (in) "Driving the enable pin (EN) high turns on the regulator .Driving this pin low puts the regulator into shutdown mode.EN can be connected to IN if not used.", 4 NR "Fixed voltage versions only; connecting an external capacitor to this pin bypasses noise generated by the internal bandgap. This capacitor allows output noise to be reduced to very low levels.", 5 OUT (power) "Output for the regulator. A small capacitor (total typical capacitance >= 2.0uF ceramic) is needed from this pin to ground to assure stability."

## TPS799315DDCT
designator U?
Single Output High PSRR LDO, 200 mA, Fixed 3.15 V Output, 2.7 to 6.5 V Input, with Ultra-Low Noise, 5-pin SOT (DDC), -40 to 125 degC, Green (RoHS & no Sb/Br); Manufacturer: Texas Instruments; PartNumber: TPS799315DDCT; Accuracy(%): 2; Fixed Output Options(V): 3.2; Iout(Max)(A): 0.2; Iq(Typ)(mA): 0.04; Rating: Catalog; SubFamily: Single Channel LDO; Vdo(Typ)(mV): 100; Vin(Max)(V): 6.5; Vin(Min)(V): 2.7; Vout Adj(Max)(V): 3.1; DatasheetVersion: SBVS056J; PackageVersion: 4204403-2/E; PackageReference: DDC5; PackageDescription: 5-Pin Plastic Small Outline, Body 2.9 x 1.6 mm, 0.95 mm Pitch; Supplier 1: Digi-Key; Supplier Part Number 1: TPS799315DDCT-ND; Supplier 2: Farnell; Supplier Part Number 2: 1647924; Supplier 3: Farnell; Supplier Part Number 3: 1647924RL; Supplier 4: Newark; Supplier Part Number 4: 33P8384; Supplier 5: Newark; Supplier Part Number 5: 99M6415; Supplier 6: Mouser; Supplier Part Number 6: 595-TPS799315DDCT; Eco-Plan: Green (RoHS & no Sb/Br); Vout Adj(Min)(V): 3.1; Mounting Technology: Surface Mount; Code_JEDEC: MO-193; ComponentLink1Description: Manufacturer URL; ComponentLink1URL: http://www.ti.com/; ComponentLink2Description: Datasheet; ComponentLink2URL: http://www.ti.com/general/docs/lit/getliterature.tsp?genericPartNumber=TPS799315&fileType=pdf; ComponentLink3Description: Package Specification; ComponentLink3URL: http://www.ti.com/litv/pdf/mpds123d
footprint TI-DDC5_N (SOT23, 5-Leads, Body 2.9x1.6mm, Pitch 0.95mm, IPC Medium Density)
footprint TI-DDC5_L (SOT23, 5-Leads, Body 2.9x1.6mm, Pitch 0.95mm, IPC High Density)
footprint TI-DDC5_M (SOT23, 5-Leads, Body 2.9x1.6mm, Pitch 0.95mm, IPC Low Density)
pins: 1 IN (power) "Input supply.", 2 GND (power) "Ground.", 3 EN (in) "Driving the enable pin (EN) high turns on the regulator .Driving this pin low puts the regulator into shutdown mode.EN can be connected to IN if not used.", 4 NR "Fixed voltage versions only; connecting an external capacitor to this pin bypasses noise generated by the internal bandgap. This capacitor allows output noise to be reduced to very low levels.", 5 OUT (power) "Output for the regulator. A small capacitor (total typical capacitance >= 2.0uF ceramic) is needed from this pin to ground to assure stability."

## TPS799315DDCTG4
designator U?
Single Output High PSRR LDO, 200 mA, Fixed 3.15 V Output, 2.7 to 6.5 V Input, with Ultra-Low Noise, 5-pin SOT (DDC), -40 to 125 degC, Green (RoHS & no Sb/Br); Manufacturer: Texas Instruments; PartNumber: TPS799315DDCTG4; Accuracy(%): 2; Fixed Output Options(V): 3.2; Iout(Max)(A): 0.2; Iq(Typ)(mA): 0.04; Rating: Catalog; SubFamily: Single Channel LDO; Vdo(Typ)(mV): 100; Vin(Max)(V): 6.5; Vin(Min)(V): 2.7; Vout Adj(Max)(V): 3.1; DatasheetVersion: SBVS056J; PackageVersion: 4204403-2/E; PackageReference: DDC5; PackageDescription: 5-Pin Plastic Small Outline, Body 2.9 x 1.6 mm, 0.95 mm Pitch; Supplier 1: Digi-Key; Supplier Part Number 1: TPS799315DDCTG4-ND; Supplier 2: Mouser; Supplier Part Number 2: 595-TPS799315DDCTG4; Eco-Plan: Green (RoHS & no Sb/Br); Vout Adj(Min)(V): 3.1; Mounting Technology: Surface Mount; Code_JEDEC: MO-193; ComponentLink1Description: Manufacturer URL; ComponentLink1URL: http://www.ti.com/; ComponentLink2Description: Datasheet; ComponentLink2URL: http://www.ti.com/general/docs/lit/getliterature.tsp?genericPartNumber=TPS799315&fileType=pdf; ComponentLink3Description: Package Specification; ComponentLink3URL: http://www.ti.com/litv/pdf/mpds123d
footprint TI-DDC5_N (SOT23, 5-Leads, Body 2.9x1.6mm, Pitch 0.95mm, IPC Medium Density)
footprint TI-DDC5_L (SOT23, 5-Leads, Body 2.9x1.6mm, Pitch 0.95mm, IPC High Density)
footprint TI-DDC5_M (SOT23, 5-Leads, Body 2.9x1.6mm, Pitch 0.95mm, IPC Low Density)
pins: 1 IN (power) "Input supply.", 2 GND (power) "Ground.", 3 EN (in) "Driving the enable pin (EN) high turns on the regulator .Driving this pin low puts the regulator into shutdown mode.EN can be connected to IN if not used.", 4 NR "Fixed voltage versions only; connecting an external capacitor to this pin bypasses noise generated by the internal bandgap. This capacitor allows output noise to be reduced to very low levels.", 5 OUT (power) "Output for the regulator. A small capacitor (total typical capacitance >= 2.0uF ceramic) is needed from this pin to ground to assure stability."

## TPS799315YZUR
designator U?
Single Output High PSRR LDO, 200 mA, Fixed 3.15 V Output, 2.7 to 6.5 V Input, with Ultra-Low Noise, 5-pin DSBGA (YZU), -40 to 125 degC, Green (RoHS & no Sb/Br); Manufacturer: Texas Instruments; PartNumber: TPS799315YZUR; Accuracy(%): 2; Fixed Output Options(V): 3.2; Iout(Max)(A): 0.2; Iq(Typ)(mA): 0.04; Rating: Catalog; SubFamily: Single Channel LDO; Vdo(Typ)(mV): 100; Vin(Max)(V): 6.5; Vin(Min)(V): 2.7; Vout Adj(Max)(V): 3.1; DatasheetVersion: SBVS056J; PackageVersion: 4205678/D; PackageReference: YZU5; PackageDescription: 5-Pin Silicon Grid Array, Body 1.337 x 0.971 mm, Pitch 0.25 mm; Supplier 1: Digi-Key; Supplier Part Number 1: 296-23721-2-ND; Supplier 2: Digi-Key; Supplier Part Number 2: 296-23721-1-ND; Supplier 3: Digi-Key; Supplier Part Number 3: 296-23721-6-ND; Supplier 4: Newark; Supplier Part Number 4: 12P8058; Supplier 5: Mouser; Supplier Part Number 5: 595-TPS799315YZUR; Eco-Plan: Green (RoHS & no Sb/Br); Vout Adj(Min)(V): 3.1; Mounting Technology: Surface Mount; ComponentLink1Description: Manufacturer URL; ComponentLink1URL: http://www.ti.com/; ComponentLink2Description: Datasheet; ComponentLink2URL: http://www.ti.com/general/docs/lit/getliterature.tsp?genericPartNumber=TPS799315&fileType=pdf; ComponentLink3Description: Package Specification; ComponentLink3URL: http://www.ti.com/litv/pdf/mpds018i
footprint TI-YZU5-1337x971DE (BGA, 5-Balls, Body 1.337x0.971mm, Pitch 0.25mm)
pins: A1 EN (in) "Driving the enable pin (EN) high turns on the regulator.Driving this pin low puts the regulator into shutdown mode.EN can be connected to IN if not used.", A3 NR "Fixed voltage versions only; connecting an external capacitor to this pin bypasses noise generated by the internal bandgap. This capacitor allows output noise to be reduced to very low levels.", B2 GND (power) "Ground.", C1 OUT (power) "Outout of the regulator.A small capacitor (total typical capacitance >= 2.0uF ceramic) is needed from this pin to ground to assure stability.", C3 IN (power) "Input supply."

## TPS799315YZUT
designator U?
Single Output High PSRR LDO, 200 mA, Fixed 3.15 V Output, 2.7 to 6.5 V Input, with Ultra-Low Noise, 5-pin DSBGA (YZU), -40 to 125 degC, Green (RoHS & no Sb/Br); Manufacturer: Texas Instruments; PartNumber: TPS799315YZUT; Accuracy(%): 2; Fixed Output Options(V): 3.2; Iout(Max)(A): 0.2; Iq(Typ)(mA): 0.04; Rating: Catalog; SubFamily: Single Channel LDO; Vdo(Typ)(mV): 100; Vin(Max)(V): 6.5; Vin(Min)(V): 2.7; Vout Adj(Max)(V): 3.1; DatasheetVersion: SBVS056J; PackageVersion: 4205678/D; PackageReference: YZU5; PackageDescription: 5-Pin Silicon Grid Array, Body 1.337 x 0.971 mm, Pitch 0.25 mm; Supplier 1: Digi-Key; Supplier Part Number 1: TPS799315YZUT-ND; Supplier 2: Mouser; Supplier Part Number 2: 595-TPS799315YZUT; Eco-Plan: Green (RoHS & no Sb/Br); Vout Adj(Min)(V): 3.1; Mounting Technology: Surface Mount; ComponentLink1Description: Manufacturer URL; ComponentLink1URL: http://www.ti.com/; ComponentLink2Description: Datasheet; ComponentLink2URL: http://www.ti.com/general/docs/lit/getliterature.tsp?genericPartNumber=TPS799315&fileType=pdf; ComponentLink3Description: Package Specification; ComponentLink3URL: http://www.ti.com/litv/pdf/mpds018i
footprint TI-YZU5-1337x971DE (BGA, 5-Balls, Body 1.337x0.971mm, Pitch 0.25mm)
pins: A1 EN (in) "Driving the enable pin (EN) high turns on the regulator.Driving this pin low puts the regulator into shutdown mode.EN can be connected to IN if not used.", A3 NR "Fixed voltage versions only; connecting an external capacitor to this pin bypasses noise generated by the internal bandgap. This capacitor allows output noise to be reduced to very low levels.", B2 GND (power) "Ground.", C1 OUT (power) "Outout of the regulator.A small capacitor (total typical capacitance >= 2.0uF ceramic) is needed from this pin to ground to assure stability.", C3 IN (power) "Input supply."

## TPS728120150DRVR
designator U?
Single Output Dual Level Fixed LDO, 200 mA, Fixed 1.2, 1.5 V Output, 2.7 to 6.5 V Input, with Vset Pin, 6-pin SON (DRV), -40 to 125 degC, Green (RoHS & no Sb/Br); Manufacturer: Texas Instruments; PartNumber: TPS728120150DRVR; Accuracy(%): 3; Dynamic Voltage Scaling: TRUE; Iout(Max)(A): 0.2; Iq(Typ)(mA): 0.05; SubFamily: Single Channel LDO; Vdo(Typ)(mV): 230; Vin(Max)(V): 6.5; Vin(Min)(V): 2.7; Vout Adj(Max)(V): 1.5; Vout Adj(Min)(V): 1.2; DatasheetVersion: SBVS095; PackageVersion: 4206925/E; PackageReference: DRV6-1600X1000TP; PackageDescription: 6-Pin Plastic Small Outline No-Lead, Body 2 x 2 mm, Pitch 0.65 mm; Supplier 1: Digi-Key; Supplier Part Number 1: TPS728120150DRVR-ND; Supplier 2: Newark; Supplier Part Number 2: 64R0786; Supplier 3: Mouser; Supplier Part Number 3: 595-TPS728120150DRVR; Eco-Plan: Green (RoHS & no Sb/Br); Fixed Output Options(V): 1.2, 1.5; Mounting Technology: Surface Mount; ComponentLink1Description: Manufacturer URL; ComponentLink1URL: http://www.ti.com/; ComponentLink2Description: Datasheet; ComponentLink2URL: http://www.ti.com/general/docs/lit/getliterature.tsp?genericPartNumber=TPS728120150&fileType=pdf; ComponentLink3Description: Package Specification; ComponentLink3URL: http://www.ti.com/litv/pdf/mpds216d
footprint TI-DRV6-1600X1000TP_V (SON, 6-Leads, Body 2x2mm, Pitch 0.65mm, Thermal Pad 1X1.6mm)
pins: 1 OUT (power) "Regulated output voltage pin. A small 1uF ceramic capacitor is needed from this pin to ground to assure stability.", 2 VSET (in) "Select pin. Driving VSET below 0.4V selects preset output voltage VOUT1. Driving VSET over 1.2V selects preset output voltage VOUT2.", 3 NC "No connection.", 4 EN (in) "Enable pin. Driving EN over 1.2V turns on the regulator. Driving EN below 0.4V puts the regulator into shutdown mode, thus reducing the operating current to 100nA, nominal.", 5 GND (power) "Ground pin.", 6 IN (power) "Input pin. A small capacitor is needed from this pin to ground to assure stability.", 7 EP (power) "Thermal Pad."

## TPS728120150DRVT
designator U?
Single Output Dual Level Fixed LDO, 200 mA, Fixed 1.2, 1.5 V Output, 2.7 to 6.5 V Input, with Vset Pin, 6-pin SON (DRV), -40 to 125 degC, Green (RoHS & no Sb/Br); Manufacturer: Texas Instruments; PartNumber: TPS728120150DRVT; Accuracy(%): 3; Dynamic Voltage Scaling: TRUE; Iout(Max)(A): 0.2; Iq(Typ)(mA): 0.05; SubFamily: Single Channel LDO; Vdo(Typ)(mV): 230; Vin(Max)(V): 6.5; Vin(Min)(V): 2.7; Vout Adj(Max)(V): 1.5; Vout Adj(Min)(V): 1.2; DatasheetVersion: SBVS095; PackageVersion: 4206925/E; PackageReference: DRV6-1600X1000TP; PackageDescription: 6-Pin Plastic Small Outline No-Lead, Body 2 x 2 mm, Pitch 0.65 mm; Supplier 1: Digi-Key; Supplier Part Number 1: 296-25585-2-ND; Supplier 2: Digi-Key; Supplier Part Number 2: 296-25585-1-ND; Supplier 3: Digi-Key; Supplier Part Number 3: 296-25585-6-ND; Supplier 4: Mouser; Supplier Part Number 4: 595-TPS728120150DRVT; Eco-Plan: Green (RoHS & no Sb/Br); Fixed Output Options(V): 1.2, 1.5; Mounting Technology: Surface Mount; ComponentLink1Description: Manufacturer URL; ComponentLink1URL: http://www.ti.com/; ComponentLink2Description: Datasheet; ComponentLink2URL: http://www.ti.com/general/docs/lit/getliterature.tsp?genericPartNumber=TPS728120150&fileType=pdf; ComponentLink3Description: Package Specification; ComponentLink3URL: http://www.ti.com/litv/pdf/mpds216d
footprint TI-DRV6-1600X1000TP_V (SON, 6-Leads, Body 2x2mm, Pitch 0.65mm, Thermal Pad 1X1.6mm)
pins: 1 OUT (power) "Regulated output voltage pin. A small 1uF ceramic capacitor is needed from this pin to ground to assure stability.", 2 VSET (in) "Select pin. Driving VSET below 0.4V selects preset output voltage VOUT1. Driving VSET over 1.2V selects preset output voltage VOUT2.", 3 NC "No connection.", 4 EN (in) "Enable pin. Driving EN over 1.2V turns on the regulator. Driving EN below 0.4V puts the regulator into shutdown mode, thus reducing the operating current to 100nA, nominal.", 5 GND (power) "Ground pin.", 6 IN (power) "Input pin. A small capacitor is needed from this pin to ground to assure stability.", 7 EP (power) "Thermal Pad."

## TPS728180300YZUR
designator U?
Single Output Dual Level Fixed LDO, 200 mA, Fixed 1.8, 3.0 V Output, 2.7 to 6.5 V Input, with Vset Pin, 5-pin DSBGA (YZU), -40 to 125 degC, Green (RoHS & no Sb/Br); Manufacturer: Texas Instruments; PartNumber: TPS728180300YZUR; Accuracy(%): 3; Iout(Max)(A): 0.2; Iq(Typ)(mA): 0.05; SubFamily: Single Channel LDO; Vdo(Typ)(mV): 230; Vin(Max)(V): 6.5; Vin(Min)(V): 2.7; Vout Adj(Min)(V): 1.8; DatasheetVersion: SBVS095; PackageVersion: 4205678/D; PackageReference: YZU5; PackageDescription: 5-Pin Silicon Grid Array, Body 1.328 x 0.96 mm, Pitch 0.25 mm; Supplier 1: Digi-Key; Supplier Part Number 1: TPS728180300YZUR-ND; Supplier 2: Newark; Supplier Part Number 2: 92T2403; Supplier 3: Mouser; Supplier Part Number 3: 595-TPS728180300YZUR; Eco-Plan: Green (RoHS & no Sb/Br); Fixed Output Options(V): 1.8, 3.0; Vout Adj(Max)(V): 3; Mounting Technology: Surface Mount; ComponentLink1Description: Manufacturer URL; ComponentLink1URL: http://www.ti.com/; ComponentLink2Description: Datasheet; ComponentLink2URL: http://www.ti.com/general/docs/lit/getliterature.tsp?genericPartNumber=TPS728180300&fileType=pdf; ComponentLink3Description: Package Specification; ComponentLink3URL: http://www.ti.com/litv/pdf/mpds018i
footprint TI-YZU5-1328X960DE (BGA, 5-Balls, Body 1.328x0.96mm, Pitch 0.25mm)
pins: A1 EN (in) "Enable pin. Driving EN over 1.2V turns on the regulator. Driving EN below 0.4V puts the regulator into shutdown mode, thus reducing the operating current to 100nA, nominal", A3 VSET (in) "Select pin. Driving VSET below 0.4V selects preset output voltage VOUT1. Driving VSET over 1.2V selects preset output voltage VOUT2.", B2 GND (power) "Ground pin", C1 OUT (power) "Regulated output voltage pin. A small 1uF ceramic capacitor is needed from this pin to ground to assure stability.", C3 IN (power) "Input pin. A small capacitor is needed from this pin to ground to assure stability."

## TPS728180300YZUT
designator U?
Single Output Dual Level Fixed LDO, 200 mA, Fixed 1.8, 3.0 V Output, 2.7 to 6.5 V Input, with Vset Pin, 5-pin DSBGA (YZU), -40 to 125 degC, Green (RoHS & no Sb/Br); Manufacturer: Texas Instruments; PartNumber: TPS728180300YZUT; Accuracy(%): 3; Iout(Max)(A): 0.2; Iq(Typ)(mA): 0.05; SubFamily: Single Channel LDO; Vdo(Typ)(mV): 230; Vin(Max)(V): 6.5; Vin(Min)(V): 2.7; Vout Adj(Min)(V): 1.8; DatasheetVersion: SBVS095; PackageVersion: 4205678/D; PackageReference: YZU5; PackageDescription: 5-Pin Silicon Grid Array, Body 1.328 x 0.96 mm, Pitch 0.25 mm; Supplier 1: Digi-Key; Supplier Part Number 1: TPS728180300YZUT-ND; Supplier 2: Newark; Supplier Part Number 2: 92T2404; Supplier 3: Mouser; Supplier Part Number 3: 595-TPS728180300YZUT; Eco-Plan: Green (RoHS & no Sb/Br); Fixed Output Options(V): 1.8, 3.0; Vout Adj(Max)(V): 3; Mounting Technology: Surface Mount; ComponentLink1Description: Manufacturer URL; ComponentLink1URL: http://www.ti.com/; ComponentLink2Description: Datasheet; ComponentLink2URL: http://www.ti.com/general/docs/lit/getliterature.tsp?genericPartNumber=TPS728180300&fileType=pdf; ComponentLink3Description: Package Specification; ComponentLink3URL: http://www.ti.com/litv/pdf/mpds018i
footprint TI-YZU5-1328X960DE (BGA, 5-Balls, Body 1.328x0.96mm, Pitch 0.25mm)
pins: A1 EN (in) "Enable pin. Driving EN over 1.2V turns on the regulator. Driving EN below 0.4V puts the regulator into shutdown mode, thus reducing the operating current to 100nA, nominal", A3 VSET (in) "Select pin. Driving VSET below 0.4V selects preset output voltage VOUT1. Driving VSET over 1.2V selects preset output voltage VOUT2.", B2 GND (power) "Ground pin", C1 OUT (power) "Regulated output voltage pin. A small 1uF ceramic capacitor is needed from this pin to ground to assure stability.", C3 IN (power) "Input pin. A small capacitor is needed from this pin to ground to assure stability."

## TPS728185295YZUR
designator U?
Single Output Dual Level Fixed LDO, 200 mA, Fixed 1.85, 2.95 V Output, 2.7 to 6.5 V Input, with Vset Pin, 5-pin DSBGA (YZU), -40 to 125 degC, Green (RoHS & no Sb/Br); Manufacturer: Texas Instruments; PartNumber: TPS728185295YZUR; Accuracy(%): 3; Iout(Max)(A): 0.2; Iq(Typ)(mA): 0.05; SubFamily: Single Channel LDO; Vdo(Typ)(mV): 230; Vin(Max)(V): 6.5; Vin(Min)(V): 2.7; Vout Adj(Max)(V): 2.95; Vout Adj(Min)(V): 1.85; DatasheetVersion: SBVS095; PackageVersion: 4205678/D; PackageReference: YZU5; PackageDescription: 5-Pin Silicon Grid Array, Body 1.328 x 0.96 mm, Pitch 0.25 mm; Supplier 1: Digi-Key; Supplier Part Number 1: TPS728185295YZUR-ND; Supplier 2: Newark; Supplier Part Number 2: 92T2405; Supplier 3: Mouser; Supplier Part Number 3: 595-TPS728185295YZUR; Eco-Plan: Green (RoHS & no Sb/Br); Fixed Output Options(V): 1.85, 2.95; Mounting Technology: Surface Mount; ComponentLink1Description: Manufacturer URL; ComponentLink1URL: http://www.ti.com/; ComponentLink2Description: Datasheet; ComponentLink2URL: http://www.ti.com/general/docs/lit/getliterature.tsp?genericPartNumber=TPS728185295&fileType=pdf; ComponentLink3Description: Package Specification; ComponentLink3URL: http://www.ti.com/litv/pdf/mpds018i
footprint TI-YZU5-1328X960DE (BGA, 5-Balls, Body 1.328x0.96mm, Pitch 0.25mm)
pins: A1 EN (in) "Enable pin. Driving EN over 1.2V turns on the regulator. Driving EN below 0.4V puts the regulator into shutdown mode, thus reducing the operating current to 100nA, nominal", A3 VSET (in) "Select pin. Driving VSET below 0.4V selects preset output voltage VOUT1. Driving VSET over 1.2V selects preset output voltage VOUT2.", B2 GND (power) "Ground pin", C1 OUT (power) "Regulated output voltage pin. A small 1uF ceramic capacitor is needed from this pin to ground to assure stability.", C3 IN (power) "Input pin. A small capacitor is needed from this pin to ground to assure stability."

## TPS728185295YZUT
designator U?
Single Output Dual Level Fixed LDO, 200 mA, Fixed 1.85, 2.95 V Output, 2.7 to 6.5 V Input, with Vset Pin, 5-pin DSBGA (YZU), -40 to 125 degC, Green (RoHS & no Sb/Br); Manufacturer: Texas Instruments; PartNumber: TPS728185295YZUT; Accuracy(%): 3; Iout(Max)(A): 0.2; Iq(Typ)(mA): 0.05; SubFamily: Single Channel LDO; Vdo(Typ)(mV): 230; Vin(Max)(V): 6.5; Vin(Min)(V): 2.7; Vout Adj(Max)(V): 2.95; Vout Adj(Min)(V): 1.85; DatasheetVersion: SBVS095; PackageVersion: 4205678/D; PackageReference: YZU5; PackageDescription: 5-Pin Silicon Grid Array, Body 1.328 x 0.96 mm, Pitch 0.25 mm; Supplier 1: Digi-Key; Supplier Part Number 1: 296-30364-2-ND; Supplier 2: Digi-Key; Supplier Part Number 2: 296-30364-1-ND; Supplier 3: Digi-Key; Supplier Part Number 3: 296-30364-6-ND; Supplier 4: Farnell; Supplier Part Number 4: 2099933; Supplier 5: Newark; Supplier Part Number 5: 05W5876; Supplier 6: Newark; Supplier Part Number 6: 92T2406; Supplier 7: Mouser; Supplier Part Number 7: 595-TPS728185295YZUT; Eco-Plan: Green (RoHS & no Sb/Br); Fixed Output Options(V): 1.85, 2.95; Mounting Technology: Surface Mount; ComponentLink1Description: Manufacturer URL; ComponentLink1URL: http://www.ti.com/; ComponentLink2Description: Datasheet; ComponentLink2URL: http://www.ti.com/general/docs/lit/getliterature.tsp?genericPartNumber=TPS728185295&fileType=pdf; ComponentLink3Description: Package Specification; ComponentLink3URL: http://www.ti.com/litv/pdf/mpds018i
footprint TI-YZU5-1328X960DE (BGA, 5-Balls, Body 1.328x0.96mm, Pitch 0.25mm)
pins: A1 EN (in) "Enable pin. Driving EN over 1.2V turns on the regulator. Driving EN below 0.4V puts the regulator into shutdown mode, thus reducing the operating current to 100nA, nominal", A3 VSET (in) "Select pin. Driving VSET below 0.4V selects preset output voltage VOUT1. Driving VSET over 1.2V selects preset output voltage VOUT2.", B2 GND (power) "Ground pin", C1 OUT (power) "Regulated output voltage pin. A small 1uF ceramic capacitor is needed from this pin to ground to assure stability.", C3 IN (power) "Input pin. A small capacitor is needed from this pin to ground to assure stability."

## TPS728185315DRVR
designator U?
Single Output Dual Level Fixed LDO, 200 mA, Fixed 1.85, 3.15 V Output, 2.7 to 6.5 V Input, with Vset Pin, 6-pin SON (DRV), -55 to 125 degC, Green (RoHS & no Sb/Br); Manufacturer: Texas Instruments; PartNumber: TPS728185315DRVR; Accuracy(%): 3; Dynamic Voltage Scaling: TRUE; Iout(Max)(A): 0.2; Iq(Typ)(mA): 0.05; SubFamily: Single Channel LDO; Vdo(Typ)(mV): 230; Vin(Max)(V): 6.5; Vin(Min)(V): 2.7; Vout Adj(Max)(V): 3.15; Vout Adj(Min)(V): 1.85; DatasheetVersion: SBVS095; PackageVersion: 4206925/E; PackageReference: DRV6-1600X1000TP; PackageDescription: 6-Pin Plastic Small Outline No-Lead, Body 2 x 2 mm, Pitch 0.65 mm; Supplier 1: Digi-Key; Supplier Part Number 1: TPS728185315DRVR-ND; Supplier 2: Newark; Supplier Part Number 2: 58M1292; Supplier 3: Mouser; Supplier Part Number 3: 595-TPS728185315DRVR; Eco-Plan: Green (RoHS & no Sb/Br); Fixed Output Options(V): 1.85, 3.15; Mounting Technology: Surface Mount; ComponentLink1Description: Manufacturer URL; ComponentLink1URL: http://www.ti.com/; ComponentLink2Description: Datasheet; ComponentLink2URL: http://www.ti.com/general/docs/lit/getliterature.tsp?genericPartNumber=TPS728185315&fileType=pdf; ComponentLink3Description: Package Specification; ComponentLink3URL: http://www.ti.com/litv/pdf/mpds216d
footprint TI-DRV6-1600X1000TP_V (SON, 6-Leads, Body 2x2mm, Pitch 0.65mm, Thermal Pad 1X1.6mm)
pins: 1 OUT (power) "Regulated output voltage pin. A small 1uF ceramic capacitor is needed from this pin to ground to assure stability.", 2 VSET (in) "Select pin. Driving VSET below 0.4V selects preset output voltage VOUT1. Driving VSET over 1.2V selects preset output voltage VOUT2.", 3 NC "No connection.", 4 EN (in) "Enable pin. Driving EN over 1.2V turns on the regulator. Driving EN below 0.4V puts the regulator into shutdown mode, thus reducing the operating current to 100nA, nominal.", 5 GND (power) "Ground pin.", 6 IN (power) "Input pin. A small capacitor is needed from this pin to ground to assure stability.", 7 EP (power) "Thermal Pad."